# Altium schematic symbol library PT01-D125D-A103.SchLib: 1 symbol
Pins are listed as number, name and electrical type; pins without a type are passive.

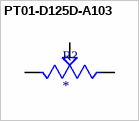
[diagram p0: symbol PT01-D125D-A103]

## PT01-D125D-A103
designator R?
10 mm, Vertical, Logarithmic, 10 kÎ©, Through Hole, D-cut Rotary Potentiometer; MF: Same Sky; MP: PT01-D125D-A103; SnapEDA_Link: https://www.snapeda.com/parts/PT01-D125D-A103/Same+Sky/view-part/?ref=snap; Package: None; Value: *; Check_prices: https://www.snapeda.com/parts/PT01-D125D-A103/Same+Sky/view-part/?ref=eda
footprint TRIM_PT01-D125D-A103
pins: 1, 2, 3